# Altium footprint library TTN_Gateway_V2.3.1.PcbLib: 36 footprints (part 2 of 3)
Each footprint in its own frame and in the unit in brackets; x right, y up, seen from the top. Pads: shape width x height; smd on the part's side, far side on the other; paste and mask are expansions set on the pad; w line width, h text height; cw(c..) or ccw(c..) is an arc to the next point about the centre after c.
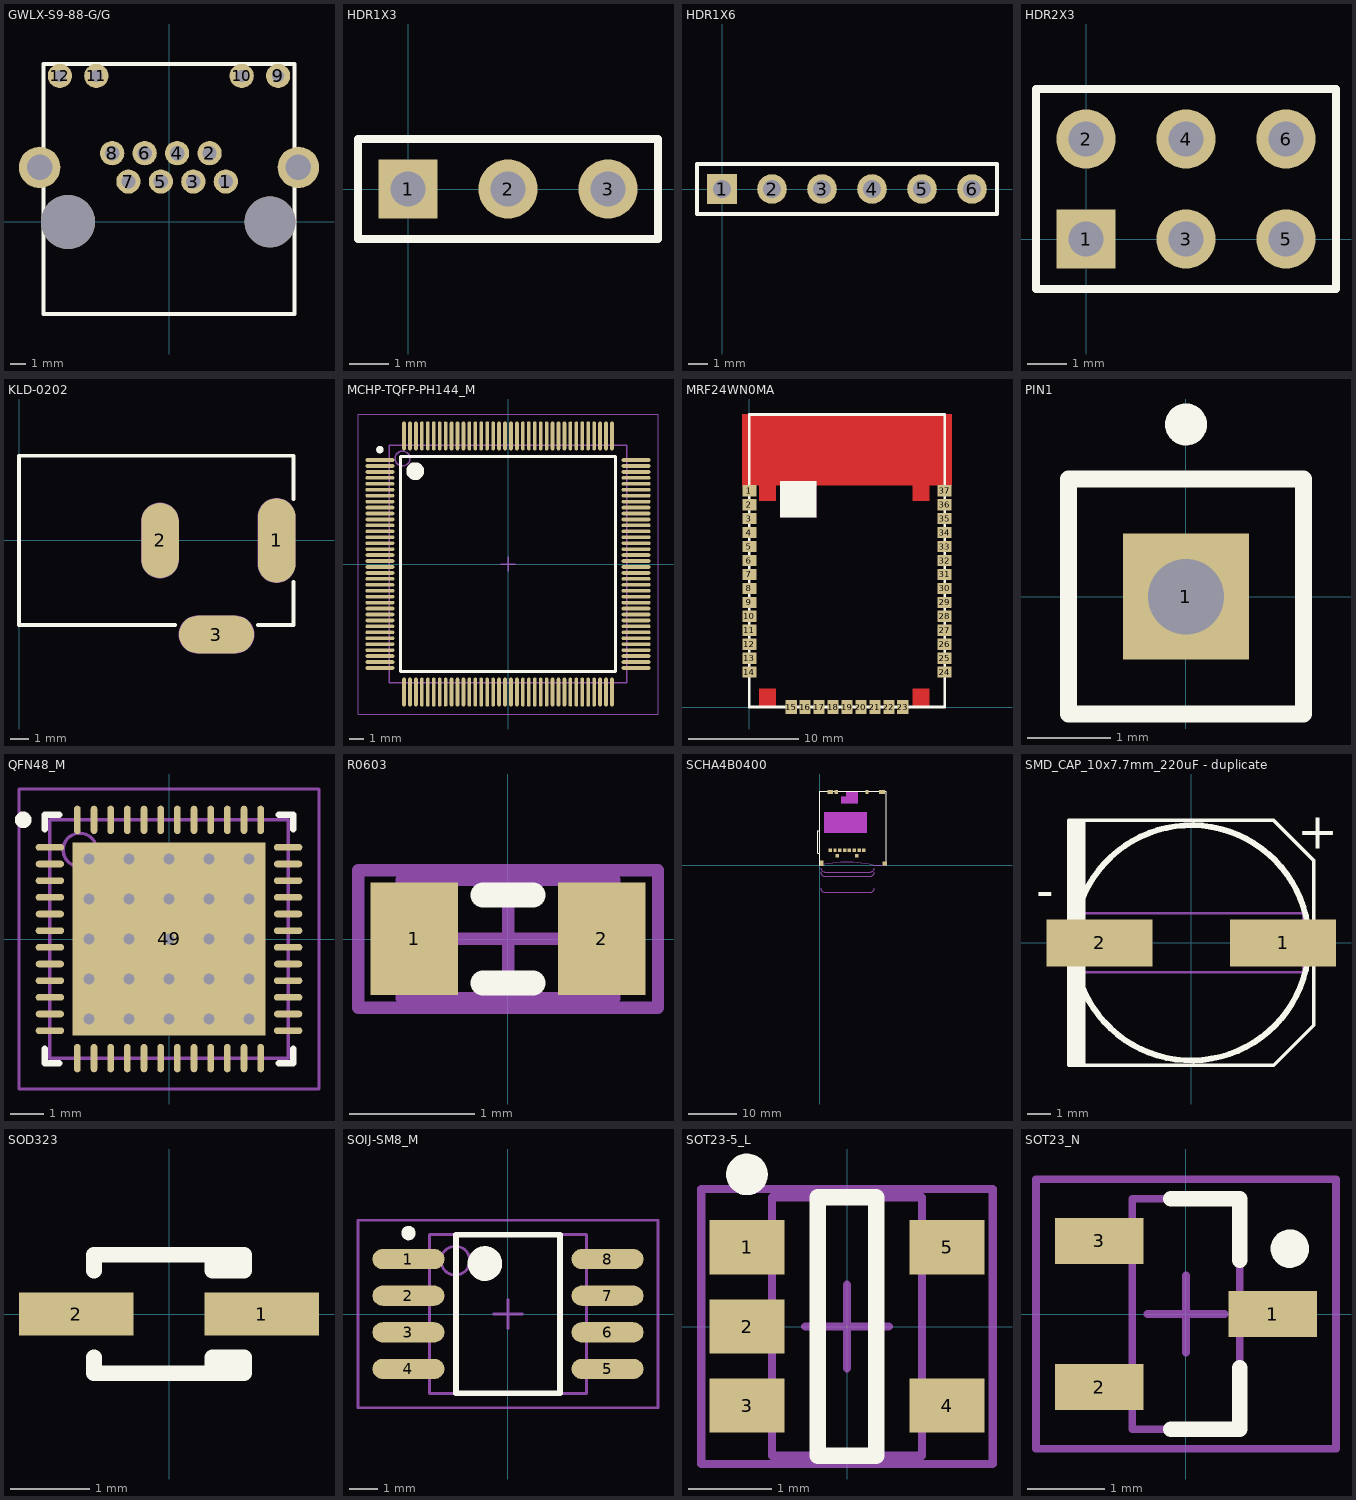
[diagram p1: the footprints below, top view; thin cyan lines are the x and y axes]

## GWLX-S9-88-G/G [mm]
pads (16):
  round 1.524 hole 0.9: 1(3.57,2.54) 2(2.55,4.32) 3(1.53,2.54) 4(0.51,4.32) 5(-0.51,2.54) 6(-1.53,4.32) 7(-2.55,2.54) 8(-3.57,4.32)
  round 1.524 hole 0.762: 9(6.86,9.18) 10(4.57,9.18) 11(-4.57,9.18) 12(-6.86,9.18)
  round 2.6 hole 1.6: ""(-8.13,3.43) ""(8.13,3.43)
  round 3.4 hole 3.4: ""(-6.35,0)
  round 3.2 hole 3.2: ""(6.35,0)
Top Overlay:
  lines w0.254: -7.9,-5.8 -0.075,-5.8 7.9,-5.8 7.9,9.94 -7.9,9.94 -7.9,-5.8
3D body: height 1, standoff 0.5, extent 4.11,-5.99 6.42,-5.61
3D body: height 1, standoff 0.5, extent -6.365,-5.975 -4.055,-5.595
3D body: height 13.21, standoff 0, extent -7.905,-5.8 7.915,9.945

## HDR1X3 [mm]
pads (3):
  rect 1.5x1.5 hole 0.9: 1(0,0)
  round 1.5 hole 0.9: 2(2.54,0) 3(5.08,0)
Top Overlay:
  lines w0.2: -1.27,-1.27 6.35,-1.27 6.35,1.27 -1.27,1.27 -1.27,-1.27

## HDR1X6 [mm]
pads (6):
  rect 1.5x1.5 hole 0.9: 1(0,0)
  round 1.5 hole 0.9: 2(2.54,0) 3(5.08,0) 4(7.62,0) 5(10.16,0) 6(12.7,0)
Top Overlay:
  lines w0.2: -1.27,-1.27 -1.27,1.27 13.97,1.27 13.97,-1.27 -1.27,-1.27

## HDR2X3 [mm]
pads (6):
  rect 1.5x1.5 hole 0.9: 1(0,0)
  round 1.5 hole 0.9: 2(0,2.54) 3(2.54,0) 4(2.54,2.54) 5(5.08,0) 6(5.08,2.54)
Top Overlay:
  lines w0.2: 1.482,-1.27 6.35,-1.27 ; 6.35,-1.27 -1.27,-1.27 -1.27,3.81 6.35,3.81 6.35,-1.27

## KLD-0202 [mm]
pads (9):
  oval 2x4.5 all layers, no hole: 1(13.7,0)
  round 0 all layers, no hole: 1A(13.7,-1.25) 1B(13.7,1.25) 2A(7.5,-1) 2B(7.5,1) 3A(9.5,-5) 3B(11.5,-5)
  oval 2x4 all layers, no hole: 2(7.5,0)
  oval 4x2 all layers, no hole: 3(10.5,-5)
Top Overlay:
  lines w0.2: 8.3,-4.5 0,-4.5 0,4.5 14.6,4.5 14.6,2.2 ; 12.7,-4.5 14.6,-4.5 14.6,-2.2
Mechanical 1:
  lines w1: 7.5,-1 7.5,1 ; 9.5,-5 11.5,-5 ; 13.7,-1.25 13.7,1.25
Mechanical 2:
  lines w2.016: 7.5,-1 7.5,1 ; 9.5,-5 11.5,-5 ; 13.7,-1.25 13.7,1.25

## MCHP-TQFP-PH144_M [mm]
pads (144):
  oval 1.95x0.25 smd: 1(-8.625,7) 2(-8.625,6.6) 3(-8.625,6.2) 4(-8.625,5.8) 5(-8.625,5.4) 6(-8.625,5) 7(-8.625,4.6) 8(-8.625,4.2) 9(-8.625,3.8) 10(-8.625,3.4) 11(-8.625,3) 12(-8.625,2.6) 13(-8.625,2.2) 14(-8.625,1.8) 15(-8.625,1.4) 16(-8.625,1) 17(-8.625,0.6) 18(-8.625,0.2) 19(-8.625,-0.2) 20(-8.625,-0.6) 21(-8.625,-1) 22(-8.625,-1.4) 23(-8.625,-1.8) 24(-8.625,-2.2) 25(-8.625,-2.6) 26(-8.625,-3) 27(-8.625,-3.4) 28(-8.625,-3.8) 29(-8.625,-4.2) 30(-8.625,-4.6) 31(-8.625,-5) 32(-8.625,-5.4) 33(-8.625,-5.8) 34(-8.625,-6.2) 35(-8.625,-6.6) 36(-8.625,-7) 73(8.625,-7) 74(8.625,-6.6) 75(8.625,-6.2) 76(8.625,-5.8) 77(8.625,-5.4) 78(8.625,-5) 79(8.625,-4.6) 80(8.625,-4.2) 81(8.625,-3.8) 82(8.625,-3.4) 83(8.625,-3) 84(8.625,-2.6) 85(8.625,-2.2) 86(8.625,-1.8) 87(8.625,-1.4) 88(8.625,-1) 89(8.625,-0.6) 90(8.625,-0.2) 91(8.625,0.2) 92(8.625,0.6) 93(8.625,1) 94(8.625,1.4) 95(8.625,1.8) 96(8.625,2.2) 97(8.625,2.6) 98(8.625,3) 99(8.625,3.4) 100(8.625,3.8) 101(8.625,4.2) 102(8.625,4.6) 103(8.625,5) 104(8.625,5.4) 105(8.625,5.8) 106(8.625,6.2) 107(8.625,6.6) 108(8.625,7)
  oval 0.25x1.95 smd: 37(-7,-8.625) 38(-6.6,-8.625) 39(-6.2,-8.625) 40(-5.8,-8.625) 41(-5.4,-8.625) 42(-5,-8.625) 43(-4.6,-8.625) 44(-4.2,-8.625) 45(-3.8,-8.625) 46(-3.4,-8.625) 47(-3,-8.625) 48(-2.6,-8.625) 49(-2.2,-8.625) 50(-1.8,-8.625) 51(-1.4,-8.625) 52(-1,-8.625) 53(-0.6,-8.625) 54(-0.2,-8.625) 55(0.2,-8.625) 56(0.6,-8.625) 57(1,-8.625) 58(1.4,-8.625) 59(1.8,-8.625) 60(2.2,-8.625) 61(2.6,-8.625) 62(3,-8.625) 63(3.4,-8.625) 64(3.8,-8.625) 65(4.2,-8.625) 66(4.6,-8.625) 67(5,-8.625) 68(5.4,-8.625) 69(5.8,-8.625) 70(6.2,-8.625) 71(6.6,-8.625) 72(7,-8.625) 109(7,8.625) 110(6.6,8.625) 111(6.2,8.625) 112(5.8,8.625) 113(5.4,8.625) 114(5,8.625) 115(4.6,8.625) 116(4.2,8.625) 117(3.8,8.625) 118(3.4,8.625) 119(3,8.625) 120(2.6,8.625) 121(2.2,8.625) 122(1.8,8.625) 123(1.4,8.625) 124(1,8.625) 125(0.6,8.625) 126(0.2,8.625) 127(-0.2,8.625) 128(-0.6,8.625) 129(-1,8.625) 130(-1.4,8.625) 131(-1.8,8.625) 132(-2.2,8.625) 133(-2.6,8.625) 134(-3,8.625) 135(-3.4,8.625) 136(-3.8,8.625) 137(-4.2,8.625) 138(-4.6,8.625) 139(-5,8.625) 140(-5.4,8.625) 141(-5.8,8.625) 142(-6.2,8.625) 143(-6.6,8.625) 144(-7,8.625)
Top Overlay:
  circle w0.25: c-8.625,7.7 r0.125
  circle w0.6: c-6.25,6.25 r0.3
  lines w0.2: -7.25,-7.25 -7.25,7.25 7.25,7.25 7.25,-7.25 -7.25,-7.25
Mechanical 13:
  circle w0.1: c-7.1,7.1 r0.5
  lines w0.1: -8,-8 -8,8 8,8 8,-8 -8,-8
Mechanical 15:
  lines w0.05: -10.1,-10.1 -10.1,10.1 10.1,10.1 10.1,-10.1 -10.1,-10.1
  lines w0.1: -0.5,0 0.5,0 ; 0,-0.5 0,0.5
3D body: height 1.2, standoff 0.05, extent -8,-8 8,8

## MRF24WN0MA [mil]
pads (37):
  rect 50x40 smd: 1(0,775) 2(0,725) 3(0,675) 4(0,625) 5(0,575) 6(0,525) 7(0,475) 8(0,425) 9(0,375) 10(0,325) 11(0,275) 12(0,225) 13(0,175) 14(0,125) 24(700,125) 25(700,175) 26(700,225) 27(700,275) 28(700,325) 29(700,375) 30(700,425) 31(700,475) 32(700,525) 33(700,575) 34(700,625) 35(700,675) 36(700,725) 37(700,775)
  rect 40x50 smd: 15(150,0) 16(200,0) 17(250,0) 18(300,0) 19(350,0) 20(400,0) 21(450,0) 22(500,0) 23(550,0)
Top Layer:
  pour cut-out: 35,5 35,65 95,65 95,5
  pour cut-out: 35,740 35,800 95,800 95,740
  pour cut-out: 585,5 585,65 645,65 645,5
  pour cut-out: 585,740 585,800 645,800 645,740
  pour cut-out: -25,795 725,795 725,1050 -25,1050
Top Overlay:
  lines w10: 0,0 700,0 700,1048 0,1048 0,0
Top Overlay keep-out:
  rectangle: 110,680 240,810
3D body: height 50, standoff 0, extent 0,0 700,1047
3D body: height 100, standoff 50, extent 25,25 675,795
3D body: height 52, standoff 50, extent 34,815 81,1013
3D body: height 52, standoff 50, extent 81,966 279,1013
3D body: height 52, standoff 50, extent 232,815 279,1013
3D body: height 52, standoff 50, extent 232,815 430,862
3D body: height 52, standoff 50, extent 383,815 430,1013
3D body: height 52, standoff 50, extent 383,966 581,1013
3D body: height 52, standoff 50, extent 534,815 581,1013

## PIN1 [mm]
pads (1):
  rect 1.5x1.5 hole 0.9: 1(0,0)
Top Overlay:
  circle w0.25: c0,2.05 r0.125
  lines w0.2: -1.4,-1.4 -1.4,1.4 1.4,1.4 1.4,-1.4 -1.4,-1.4

## QFN48_M [mm]
pads (49):
  oval 0.85x0.2 smd: 1(-3.575,2.75) 2(-3.575,2.25) 3(-3.575,1.75) 4(-3.575,1.25) 5(-3.575,0.75) 6(-3.575,0.25) 7(-3.575,-0.25) 8(-3.575,-0.75) 9(-3.575,-1.25) 10(-3.575,-1.75) 11(-3.575,-2.25) 12(-3.575,-2.75) 25(3.575,-2.75) 26(3.575,-2.25) 27(3.575,-1.75) 28(3.575,-1.25) 29(3.575,-0.75) 30(3.575,-0.25) 31(3.575,0.25) 32(3.575,0.75) 33(3.575,1.25) 34(3.575,1.75) 35(3.575,2.25) 36(3.575,2.75)
  oval 0.2x0.85 smd: 13(-2.75,-3.575) 14(-2.25,-3.575) 15(-1.75,-3.575) 16(-1.25,-3.575) 17(-0.75,-3.575) 18(-0.25,-3.575) 19(0.25,-3.575) 20(0.75,-3.575) 21(1.25,-3.575) 22(1.75,-3.575) 23(2.25,-3.575) 24(2.75,-3.575) 37(2.75,3.575) 38(2.25,3.575) 39(1.75,3.575) 40(1.25,3.575) 41(0.75,3.575) 42(0.25,3.575) 43(-0.25,3.575) 44(-0.75,3.575) 45(-1.25,3.575) 46(-1.75,3.575) 47(-2.25,3.575) 48(-2.75,3.575)
  rect 5.8x5.8 smd paste-1: 49(0,0)
via 2.4,-2.4 diameter 0.66 hole 0.33
via 1.2,-2.4 diameter 0.66 hole 0.33
via 0,-2.4 diameter 0.66 hole 0.33
via -1.2,-2.4 diameter 0.66 hole 0.33
via -2.4,-2.4 diameter 0.66 hole 0.33
via 2.4,-1.2 diameter 0.66 hole 0.33
via 1.2,-1.2 diameter 0.66 hole 0.33
via 0,-1.2 diameter 0.66 hole 0.33
via -1.2,-1.2 diameter 0.66 hole 0.33
via -2.4,-1.2 diameter 0.66 hole 0.33
via 2.4,0 diameter 0.66 hole 0.33
via 1.2,0 diameter 0.66 hole 0.33
via 0,0 diameter 0.66 hole 0.33
via -1.2,0 diameter 0.66 hole 0.33
via -2.4,0 diameter 0.66 hole 0.33
via 2.4,1.2 diameter 0.66 hole 0.33
via 1.2,1.2 diameter 0.66 hole 0.33
via 0,1.2 diameter 0.66 hole 0.33
via -1.2,1.2 diameter 0.66 hole 0.33
via -2.4,1.2 diameter 0.66 hole 0.33
via 2.4,2.4 diameter 0.66 hole 0.33
via 1.2,2.4 diameter 0.66 hole 0.33
via 0,2.4 diameter 0.66 hole 0.33
via -1.2,2.4 diameter 0.66 hole 0.33
via -2.4,2.4 diameter 0.66 hole 0.33
Top Overlay:
  circle w0.25: c-4.375,3.575 r0.125
  lines w0.2: -3.725,-3.3 -3.725,-3.725 -3.3,-3.725 ; -3.725,3.3 -3.725,3.725 -3.3,3.725 ; 3.3,-3.725 3.725,-3.725 3.725,-3.3 ; 3.3,3.725 3.725,3.725 3.725,3.3
Mechanical 13:
  circle w0.1: c-2.675,2.675 r0.5
  lines w0.1: -3.575,-3.575 3.575,-3.575 3.575,3.575 -3.575,3.575 -3.575,-3.575
Mechanical 15:
  lines w0.1: -0.5,0 0.5,0 ; 0,-0.5 0,0.5 ; -4.5,-4.5 4.5,-4.5 4.5,4.5 -4.5,4.5 -4.5,-4.5
3D body: height 0.9, standoff 0, extent -3.575,-3.575 3.575,3.575

## R0603 [mm]
pads (2):
  rect 0.7x0.9 smd: 1(-0.75,0) 2(0.75,0)
Top Overlay:
  lines w0.2: -0.2,-0.35 0.2,-0.35 ; -0.2,0.35 0.2,0.35
Mechanical 13:
  lines w0.1: -0.85,-0.475 0.85,-0.475 0.85,0.475 -0.85,0.475 -0.85,-0.475
Mechanical 15:
  lines w0.1: -0.475,0 0.475,0 ; 0,-0.475 0,0.475 ; -1.2,-0.55 1.2,-0.55 1.2,0.55 -1.2,0.55 -1.2,-0.55
3D body: height 0.9, standoff 0, extent -0.85,-0.475 0.85,0.475

## SCHA4B0400 [mm]
pads (16):
  rect 0.7x0.75 smd: \C\S\(8.163,3.125) CLK(5.163,3.125) DAT1(2.163,3.125) DAT2(9.163,3.125) GND(3.662,1.925) GND(4.163,3.125) GND(7.662,1.925) MISO(3.163,3.125) MOSI(7.163,3.125) VDD(6.163,3.125)
  rect 0.65x0.75 smd: CD(3.437,15.175) GND(9.787,15.175)
  rect 0.745x1.15 smd: SHIELD(0.453,0.425)
  rect 1.2x0.85 smd: SHIELD(2.2,15.15)
  rect 1.3x0.85 smd: SHIELD(12.925,15.15)
  rect 0.95x0.9 smd: SHIELD(13.487,0.35)
Top Overlay:
  lines w0.1: 0,0 0,2.52 ; 13.825,0 13.825,15.3 0,15.3 0,7.15 ; 0,2.52 0,7.15 ; 0,2.52 -0.42,2.52 -0.42,7.15 0,7.15
Mechanical 8 keep-out:
  rectangle: 0.9,6.65 9.8,11.05
  rectangle: 5.445,12.8 7.95,15.35
  rectangle: 4.4,12.8 7.95,14.2
Mechanical 16:
  lines w0.1: 0,0 0.242,0 cw(c5.658,-22.886) 11.074,0 13.825,0 ; 0.242,-4.796 ccw(c1.096,-4.77) 1.07,-5.624 10.488,-5.624 ccw(c10.462,-4.77) 11.316,-4.796 ; 0.242,-1.484 ccw(c1.095,-1.458) 1.07,-2.311 10.488,-2.311 ccw(c10.462,-1.458) 11.316,-1.484 ; 0.242,-0.586 ccw(c1.096,-0.561) 1.07,-1.415 10.488,-1.415 ccw(c10.462,-0.561) 11.316,-0.586

## SMD_CAP_10x7.7mm_220uF - duplicate [mm]
pads (2):
  rect 4.5x2 smd: 1(3.9,0) 2(-3.9,0)
Top Overlay:
  circle w0.254: c0,0 r5
  rectangle: -5.2,-5.2 -4.5,5.2
  lines w0.15: -5.2,-5.2 3.5,-5.2 5.2,-3.5 5.2,0 5.2,3.5 3.5,5.2 -5.2,5.2 -5.2,-5.2
  text "+" at 4.5,4 h1.52
  text "-" at -6.6,1.5 h1.52
Mechanical 13:
  lines w0.1: -4.75,-1.25 4.75,-1.25 4.75,1.25 -4.75,1.25 -4.75,-1.25
Mechanical 15:
  lines w0.05: -4.75,-1.25 4.75,-1.25 4.75,1.25 -4.75,1.25 -4.75,-1.25
3D body: height 7.7, standoff 1, extent -5,-4.998 5,4.999
3D body: height 1, standoff 0.1, extent -5.2,-5.2 5.2,5.2

## SOD323 [mm]
pads (2):
  rect 1.45x0.55 smd: 1(1.175,0) 2(-1.175,0)
Top Overlay:
  lines w0.2: -0.95,-0.55 -0.95,-0.75 0.95,-0.75 0.95,-0.55 0.55,-0.55 0.55,-0.75 ; -0.95,0.55 -0.95,0.75 0.95,0.75 0.95,0.55 0.55,0.55 0.55,0.75

## SOIJ-SM8_M [mm]
pads (8):
  oval 2.5x0.7 smd: 1(-3.45,1.905) 2(-3.45,0.635) 3(-3.45,-0.635) 4(-3.45,-1.905) 5(3.45,-1.905) 6(3.45,-0.635) 7(3.45,0.635) 8(3.45,1.905)
Top Overlay:
  circle w0.6: c-0.8,1.75 r0.3
  circle w0.25: c-3.45,2.805 r0.125
  lines w0.2: -1.8,-2.75 1.8,-2.75 1.8,2.75 -1.8,2.75 -1.8,-2.75
Mechanical 13:
  circle w0.1: c-1.825,1.85 r0.5
  lines w0.1: -2.725,-2.75 2.725,-2.75 2.725,2.75 -2.725,2.75 -2.725,-2.75
Mechanical 15:
  lines w0.1: -0.5,0 0.5,0 ; 0,-0.5 0,0.5 ; -5.2,-3.25 5.2,-3.25 5.2,3.25 -5.2,3.25 -5.2,-3.25
3D body: height 2.04, standoff 0, extent -2.725,-2.75 2.725,2.75

## SOT23-5_L [mm]
pads (5):
  rect 0.9x0.65 smd: 1(-1.2,0.95) 2(-1.2,0) 3(-1.2,-0.95) 4(1.2,-0.95) 5(1.2,0.95)
Top Overlay:
  circle w0.25: c-1.2,1.825 r0.125
  lines w0.2: -0.35,-1.55 0.35,-1.55 0.35,1.55 -0.35,1.55 -0.35,-1.55
Mechanical 13:
  lines w0.1: -0.9,-1.55 -0.9,1.55 0.9,1.55 0.9,-1.55 -0.9,-1.55
Mechanical 15:
  lines w0.1: -0.5,0 0.5,0 ; 0,-0.5 0,0.5 ; -1.75,-1.65 -1.75,1.65 1.75,1.65 1.75,-1.65 -1.75,-1.65
3D body: height 1.45, standoff 0, extent -0.9,-1.55 0.9,1.55

## SOT23_N [mm]
pads (3):
  rect 1.15x0.6 smd: 1(1.125,0) 2(-1.125,-0.95) 3(-1.125,0.95)
Top Overlay:
  circle w0.25: c1.35,0.85 r0.125
  lines w0.2: -0.2,-1.5 0.7,-1.5 0.7,-0.7 ; -0.2,1.5 0.7,1.5 0.7,0.7
Mechanical 13:
  lines w0.1: -0.7,-1.5 0.7,-1.5 0.7,1.5 -0.7,1.5 -0.7,-1.5
Mechanical 15:
  lines w0.1: -0.5,0 0.5,0 ; 0,-0.5 0,0.5 ; -1.95,-1.75 1.95,-1.75 1.95,1.75 -1.95,1.75 -1.95,-1.75
3D body: height 1.1, standoff 0, extent -0.7,-1.5 0.7,1.5